# Altium schematic symbol library CAMERA_SchLib.SchLib: 11 symbols
Pins are listed as number, name and electrical type; pins without a type are passive.

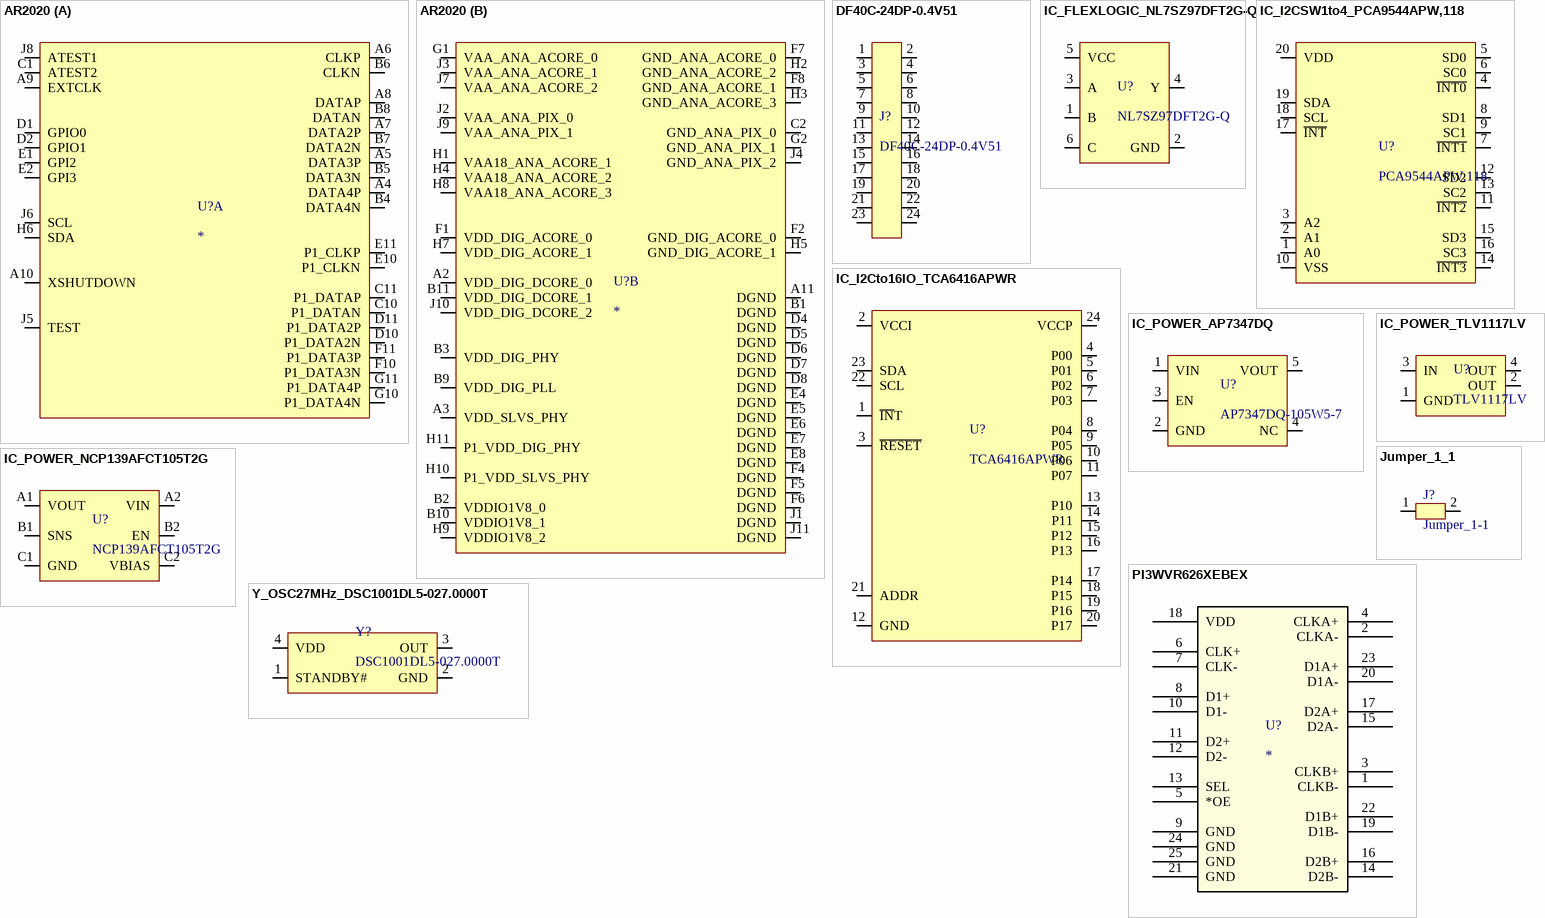
[diagram p0: symbols AR2020 to Y_OSC27MHz_DSC1001DL5-027.0000T]

## AR2020
designator U?
part A pins: A4 DATA4P, A5 DATA3P, A6 CLKP, A7 DATA2P, A8 DATAP, A9 EXTCLK, A10 XSHUTDOWN, B4 DATA4N, B5 DATA3N, B6 CLKN, B7 DATA2N, B8 DATAN, C1 ATEST2, C10 P1_DATAN, C11 P1_DATAP, D1 GPIO0, D2 GPIO1, D10 P1_DATA2N, D11 P1_DATA2P, E1 GPI2, E2 GPI3, E10 P1_CLKN, E11 P1_CLKP, F10 P1_DATA3N, F11 P1_DATA3P, G10 P1_DATA4N, G11 P1_DATA4P, H6 SDA, J5 TEST, J6 SCL, J8 ATEST1
part B pins: A2 VDD_DIG_DCORE_0, A3 VDD_SLVS_PHY, A11 DGND, B1 DGND, B2 VDDIO1V8_0, B3 VDD_DIG_PHY, B9 VDD_DIG_PLL, B10 VDDIO1V8_1, B11 VDD_DIG_DCORE_1, C2 GND_ANA_PIX_0, D4 DGND, D5 DGND, D6 DGND, D7 DGND, D8 DGND, E4 DGND, E5 DGND, E6 DGND, E7 DGND, E8 DGND, F1 VDD_DIG_ACORE_0, F2 GND_DIG_ACORE_0, F4 DGND, F5 DGND, F6 DGND, F7 GND_ANA_ACORE_0, F8 GND_ANA_ACORE_1, G1 VAA_ANA_ACORE_0, G2 GND_ANA_PIX_1, H1 VAA18_ANA_ACORE_1, H2 GND_ANA_ACORE_2, H3 GND_ANA_ACORE_3, H4 VAA18_ANA_ACORE_2, H5 GND_DIG_ACORE_1, H7 VDD_DIG_ACORE_1, H8 VAA18_ANA_ACORE_3, H9 VDDIO1V8_2, H10 P1_VDD_SLVS_PHY, H11 P1_VDD_DIG_PHY, J1 DGND, J2 VAA_ANA_PIX_0, J3 VAA_ANA_ACORE_1, J4 GND_ANA_PIX_2, J7 VAA_ANA_ACORE_2, J9 VAA_ANA_PIX_1, J10 VDD_DIG_DCORE_2, J11 DGND

## DF40C-24DP-0.4V51
designator J?
No Description Available; Mfr_Name: Hirose; RefDes: RefDes; Type: Type
footprint CONN24_6p32X1p85_hdr_HIR
footprint CONN24_6p32X1p85
pins: 1, 2, 3, 4, 5, 6, 7, 8, 9, 10, 11, 12, 13, 14, 15, 16, 17, 18, 19, 20, 21, 22, 23, 24

## IC_FLEXLOGIC_NL7SZ97DFT2G-Q
designator U?, comment NL7SZ97DFT2G-Q
pins: 1 B, 2 GND, 3 A, 4 Y, 5 VCC, 6 C

## IC_I2CSW1to4_PCA9544APW,118
designator U?, comment PCA9544APW,118
pins: 1 A0, 2 A1, 3 A2, 4 ~{INT0}, 5 SD0, 6 SC0, 7 ~{INT1}, 8 SD1, 9 SC1, 10 VSS, 11 ~{INT2}, 12 SD2, 13 SC2, 14 ~{INT3}, 15 SD3, 16 SC3, 17 ~{INT}, 18 SCL, 19 SDA, 20 VDD

## IC_I2Cto16IO_TCA6416APWR
designator U?, comment TCA6416APWR
pins: 1 ~{IN}T, 2 VCCI, 3 ~{RESET}, 4 P00, 5 P01, 6 P02, 7 P03, 8 P04, 9 P05, 10 P06, 11 P07, 12 GND, 13 P10, 14 P11, 15 P12, 16 P13, 17 P14, 18 P15, 19 P16, 20 P17, 21 ADDR, 22 SCL, 23 SDA, 24 VCCP

## IC_POWER_AP7347DQ
designator U?, comment AP7347DQ-105W5-7
pins: 1 VIN, 2 GND, 3 EN, 4 NC, 5 VOUT

## IC_POWER_NCP139AFCT105T2G
designator U?, comment NCP139AFCT105T2G
footprint WLCSP6
pins: A1 VOUT, A2 VIN, B1 SNS, B2 EN, C1 GND, C2 VBIAS

## IC_POWER_TLV1117LV
designator U?, comment TLV1117LV
pins: 1 GND, 2 OUT, 3 IN, 4 OUT

## Jumper_1_1
designator J?, comment Jumper_1-1
footprint Jumper_1-1
pins: 1, 2

## PI3WVR626XEBEX
designator U?
PI3WVR626XEBEX; Mfr_Name: Diodes Inc; RefDes: RefDes; Type: Type
footprint PI3WVR626XEBEX_DIO
pins: 1 CLKB-, 2 CLKA-, 3 CLKB+, 4 CLKA+, 5 *OE, 6 CLK+, 7 CLK-, 8 D1+, 9 GND, 10 D1-, 11 D2+, 12 D2-, 13 SEL, 14 D2B-, 15 D2A-, 16 D2B+, 17 D2A+, 18 VDD, 19 D1B-, 20 D1A-, 21 GND, 22 D1B+, 23 D1A+, 24 GND, 25 GND

## Y_OSC27MHz_DSC1001DL5-027.0000T
designator Y?, comment DSC1001DL5-027.0000T
pins: 1 STANDBY#, 2 GND, 3 OUT, 4 VDD